# EAGLE library part POT_2 (library Resistors)
Potentiometer
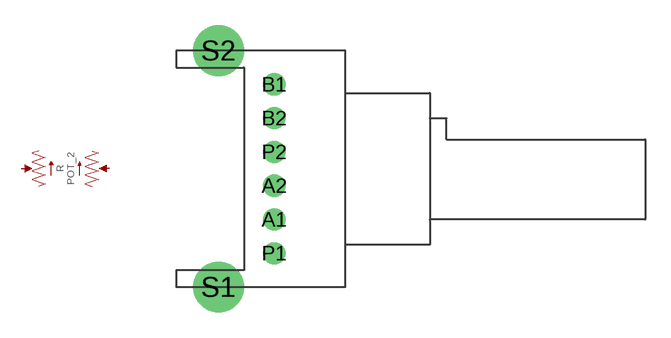
[diagram p1: symbol with the pads of POT_RA_17.5; footprint POT_RA_17.5]

Designator prefix R

## POT_2RA_17.5  [POT_RA_17.5]
A1  A1
A2  A2
B1  B1
B2  B2
P1  W1
P2  W2

## Footprint POT_RA_17.5 (pad centres in mm)
drill 0.8: A1 -4.2,-3; A2 -4.2,-1; B1 -4.2,5; B2 -4.2,3; P1 -4.2,-5; P2 -4.2,1
drill 2: S1 -7.5,-7; S2 -7.5,7